# Altium schematic symbol library 2N7000.SchLib: 1 symbol
Pins are listed as number, name and electrical type; pins without a type are passive.

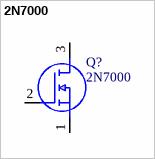
[diagram p0: symbol 2N7000]

## 2N7000
designator Q?
N-channel MOSFET,2N7000 0.2A 60V; Manufacturer_Name: ON Semiconductor; Manufacturer_Part_Number: 2N7000; RS Part Number: 1698553; RS Price/Stock: http://uk.rs-online.com/web/p/products/1698553; Arrow Part Number: 2N7000; Arrow Price/Stock: https://www.arrow.com/en/products/2n7000/on-semiconductor; Datasheet Link: http://www.onsemi.com/pub/Collateral/NDS7002A-D.PDF
footprint TO-92_(TO-226)
pins: 1 S, 2 G, 3 D